# EAGLE library part LMC6482QML (library jack_libs)
Texas Instruments CMOS Dual Rail-To-Rail Input and Output Operational Amplifier
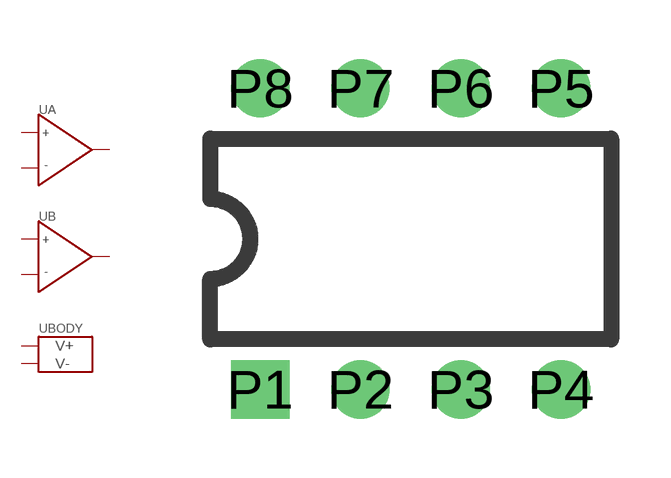
[diagram p10: symbol with the pads of DIP-8; footprint DIP-8]

Designator prefix U; gates A=OP_AMP B=OP_AMP BODY=OP_AMP_SUPPORT_IO

## LMC6482QML  [DIP-8]
P1  A:OUTPUT
P2  A:INV_INPUT
P3  A:NON_INV_INPUT
P4  BODY:V-
P5  B:NON_INV_INPUT
P6  B:INV_INPUT
P7  B:OUTPUT
P8  BODY:V+

## Footprint DIP-8 (pad centres in mm)
drill 0.965 square: P1 -3.81,-3.81
drill 0.965: P2 -1.27,-3.81; P3 1.27,-3.81; P4 3.81,-3.81; P5 3.81,3.81; P6 1.27,3.81; P7 -1.27,3.81; P8 -3.81,3.81